# EAGLE library part 20020110-D081A01LF (library con-fci)
TERM BLOCK HDR 8POS R/A 3.5MM
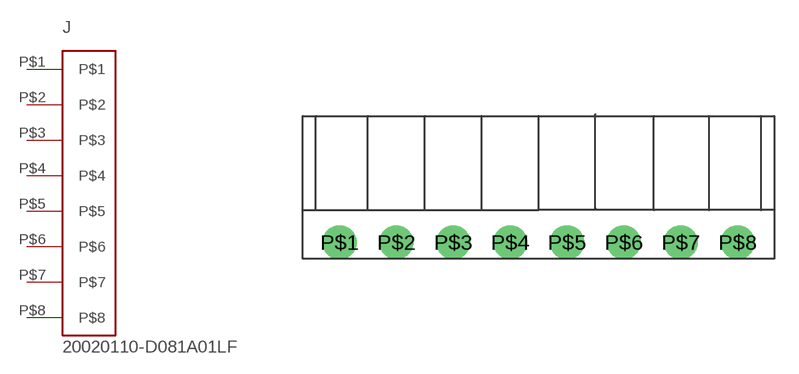
[diagram p3: symbol with the pads of 20020110-D081A01LF; footprint 20020110-D081A01LF]

Designator prefix J

## 20020110-D081A01LF (DIGIKEY: ED10550-ND)  [20020110-D081A01LF]
P$1  P$1
P$2  P$2
P$3  P$3
P$4  P$4
P$5  P$5
P$6  P$6
P$7  P$7
P$8  P$8

## Footprint 20020110-D081A01LF (pad centres in mm)
drill 1.4: P$1 -12.25,0; P$2 -8.75,0; P$3 -5.25,0; P$4 -1.75,0; P$5 1.75,0; P$6 5.25,0; P$7 8.75,0; P$8 12.25,0